# EAGLE library part AK5394 (library akm)
Audio ADC Super High Performance, 192kHz, 24-Bit, 2ch, Delta Sigma
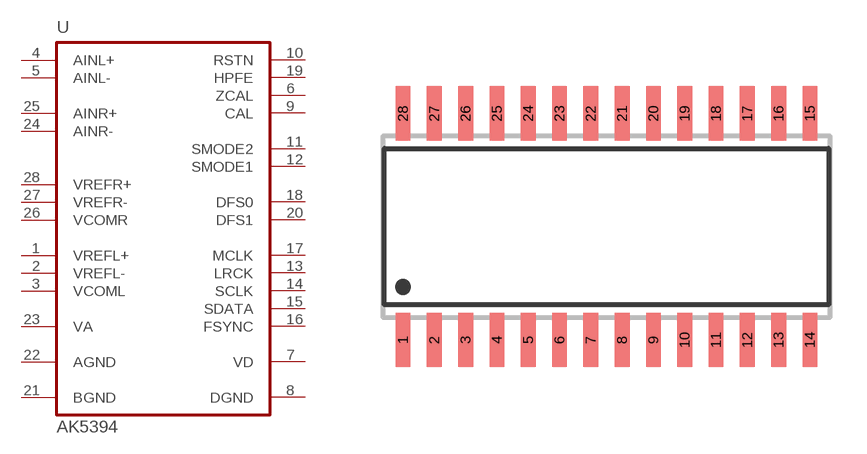
[diagram p16: symbol with the pads of SO28W; footprint SO28W]

Designator prefix U

## AK5394  [SO28W]
1  VREFL+  out
2  VREFL-  out
3  VCOML  out
4  AINL+  in
5  AINL-  in
6  ZCAL  in
7  VD  pwr
8  DGND  pwr
9  CAL  out
10  RSTN  in
11  SMODE2  in
12  SMODE1  in
13  LRCK
14  SCLK
15  SDATA  out
16  FSYNC
17  MCLK  in
18  DFS0  in
19  HPFE  in
20  DFS1  in
21  BGND  pwr
22  AGND  pwr
23  VA  pwr
24  AINR-  in
25  AINR+  in
26  VCOMR  out
27  VREFR-  out
28  VREFR+  out

## Footprint SO28W (pad centres in mm)
SMALL OUTLINE INTEGRATED CIRCUIT wide body 7.5 mm/JEDEC MO-119AB
smd 0.6 x 2.2: 1 -8.255,-4.6; 2 -6.985,-4.6; 3 -5.715,-4.6; 4 -4.445,-4.6; 5 -3.175,-4.6; 6 -1.905,-4.6; 7 -0.635,-4.6; 8 0.635,-4.6; 9 1.905,-4.6; 10 3.175,-4.6; 11 4.445,-4.6; 12 5.715,-4.6; 13 6.985,-4.6; 14 8.255,-4.6; 15 8.255,4.6; 16 6.985,4.6; 17 5.715,4.6; 18 4.445,4.6; 19 3.175,4.6; 20 1.905,4.6; 21 0.635,4.6; 22 -0.635,4.6; 23 -1.905,4.6; 24 -3.175,4.6; 25 -4.445,4.6; 26 -5.715,4.6; 27 -6.985,4.6; 28 -8.255,4.6